# Altium integrated library 282837-5.IntLib: 1 symbol
Pins are listed as number, name and electrical type; pins without a type are passive.

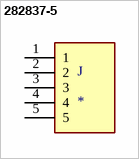
[diagram p0: symbol 282837-5]

## 282837-5
designator J
TERMI-BLOK PCB MOUNT 5P; MP: 282837-5; MF: TE Connectivity; Price: None; Package: None; Value: *; TE_purchase_URL: https://www.te.com/usa-en/product-282837-5.html?te_bu=Cor&te_type=disp&te_campaign=seda_glo_cor-seda-global-disp-prtnr-fy19-seda-model-bom-cta_sma-317_1&elqCampaignId=32493; Availability: Unavailable; EU_RoHS_Compliance: Compliant with Exemptions; SnapEDA_Link: https://www.snapeda.com/parts/282837-5/TE%20Connectivity%20AMP%20Connectors/view-part/532953/?ref=snap
footprint TE_282837-5
pins: 1, 2, 3, 4, 5